# Altium schematic symbol library Wally_BMS.SchLib: 22 symbols
Pins are listed as number, name and electrical type; pins without a type are passive.

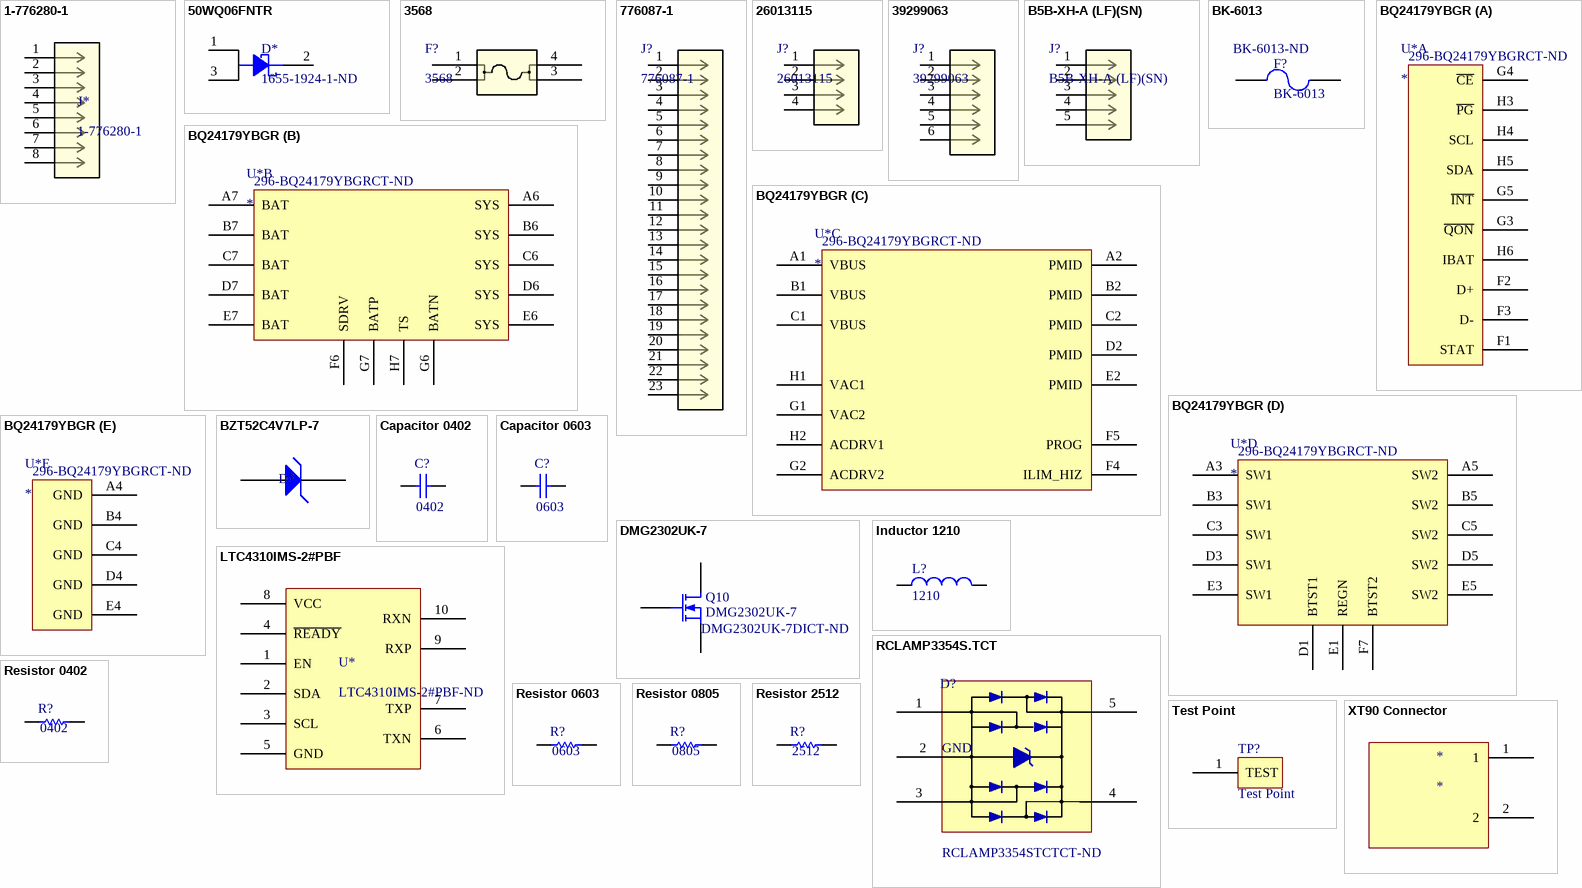
[diagram p0: symbols 1-776280-1 to XT90 Connector]

## 1-776280-1
designator J*
Mfr_Name: TE Connectivity; Manufacturer_Part_Number: 1-776280-1
footprint CONN8_776280_TEC
pins: 1, 2, 3, 4, 5, 6, 7, 8

## 50WQ06FNTR
designator D*, comment 1655-1924-1-ND
SCHOTTKY RECTIFIER 60V D-PAK
footprint 50WQ06FNTR (Footprint not found)
pins: 1 ANODE, 2 CATHODE, 3 ANODE

## 3568
designator F?
No Description Available; Mfr_Name: Keystone Electronics; Type: DEV; Copyright: Copyright (C) 2022 Ultra Librarian. All rights reserved.; Manufacturer_Part_Number: 3568; Digi-Key_Part_Number_1: 1528-2397-ND; Digi-Key_Part_Number_2: 36-3568-ND; RefDes: RefDes
footprint 3568_KEY
pins: 1, 2, 3, 4

## 776087-1
designator J?
No Description Available; Mfr_Name: TE Connectivity; Type: DEV; Copyright: Copyright (C) 2021 Ultra Librarian. All rights reserved.; Manufacturer_Part_Number: 776087-1; Digi-Key_Part_Number_1: A107007-ND; RefDes: RefDes
footprint CONN23_776087_TEC
pins: 1, 2, 3, 4, 5, 6, 7, 8, 9, 10, 11, 12, 13, 14, 15, 16, 17, 18, 19, 20, 21, 22, 23

## 26013115
designator J?
No Description Available; Mfr_Name: Molex Connector Corporation; Copyright: Copyright (C) 2021 Ultra Librarian. All rights reserved.; Manufacturer_Part_Number: 26013115; RefDes: RefDes; Type: DEV
footprint CON_26013115
pins: 1, 2, 3, 4

## 39299063
designator J?
No Description Available; Mfr_Name: Molex Connector Corporation; Copyright: Copyright (C) 2021 Ultra Librarian. All rights reserved.; Manufacturer_Part_Number: 39299063; RefDes: RefDes; Type: DEV
footprint CON_39299063
pins: 1, 2, 3, 4, 5, 6

## B5B-XH-A (LF)(SN)
designator J?
No Description Available; Mfr_Name: JST; Copyright: Copyright (C) 2021 Ultra Librarian. All rights reserved.; Manufacturer_Part_Number: B5B-XH-A (LF)(SN); RefDes: RefDes; Type: DEV
footprint CONN_B5B-XH-A (LF)(SN)_JST
pins: 1, 2, 3, 4, 5

## BK-6013
designator F?  Supplier Part Number 1: BK-6013-ND
FUSE HOLDER BLADE PCB; Supplier 1: Digi-Key
footprint BK-6013 (FUSE HOLDER BLADE PCB)
pins: 1, 2, 3, 4

## BQ24179YBGR
designator U*  Supplier Part Number 1: 296-BQ24179YBGRCT-ND
INTEGRATED, NVDC, 5-A 1-CELL TO; Manufacturer: Texas Instruments; Manufacturer Part Number: BQ24179YBGR; Supplier 1: Digi-Key; RoHS: Yes; Stock 1: 2424; Pricing 1: 1=6.36000, 10=5.74300, 25=5.47600, 100=4.75470, 250=4.54104, 500=4.41000 (USD)
footprint BGA_79YBGR_TEX
part A pins: F1 STAT, F2 D+, F3 D-, G3 ~{QON}, G4 ~{CE}, G5 ~{INT}, H3 ~{PG}, H4 SCL, H5 SDA, H6 IBAT
part B pins: A6 SYS, A7 BAT, B6 SYS, B7 BAT, C6 SYS, C7 BAT, D6 SYS, D7 BAT, E6 SYS, E7 BAT, F6 SDRV, G6 BATN, G7 BATP, H7 TS
part C pins: A1 VBUS, A2 PMID, B1 VBUS, B2 PMID, C1 VBUS, C2 PMID, D2 PMID, E2 PMID, F4 ILIM_HIZ, F5 PROG, G1 VAC2, G2 ACDRV2, H1 VAC1, H2 ACDRV1
part D pins: A3 SW1, A5 SW2, B3 SW1, B5 SW2, C3 SW1, C5 SW2, D1 BTST1, D3 SW1, D5 SW2, E1 REGN, E3 SW1, E5 SW2, F7 BTST2
part E pins: A4 GND, B4 GND, C4 GND, D4 GND, E4 GND

## BZT52C4V7LP-7
designator D?
DIODE ZENER 4.7V 250MW 2DFN
footprint bzt52c4v7lp-7 (DIODE ZENER 4.7V 250MW 2DFN)
pins: 1 K, 2 A

## Capacitor 0402
designator C?  Package / Case: 0402
footprint C0402 (Chip Capacitor, 2-Leads, Body 1.00x0.50mm, IPC Medium Density)
pins: 1, 2

## Capacitor 0603
designator C?  Package / Case: 0603
footprint C0603 (Chip Capacitor, 2-Leads, Body 1.60x0.80mm, IPC Medium Density)
pins: 1, 2

## DMG2302UK-7
designator Q10  Supplier Part Number 1: DMG2302UK-7DICT-ND
MOSFET N-CH 20V 2.8A SOT23; Manufacturer: Nexperia USA; Manufacturer Part Number: 2N7002P,215; PackageReference: SOT23; PackageDescription: SOT-23; 3 Leads; Body 3.1 x 2.5 mm, inc. leads (LxW max), Alternate Lead Configuration; Supplier 1: Digi-Key; Stock 1: 1001498; Pricing 1: 1 = 0.200000, 10 = 0.179000, 100 = 0.117300, 500 = 0.057360, 1000 = 0.039110 (USD); RoHS: No; ComponentLink1URL: https://assets.nexperia.com/documents/data-sheet/2N7002P.pdf?src-supplier=Digi-Key; ComponentLink1Description: https://assets.nexperia.com/documents/data-sheet/2N7002P.pdf?src-supplier=Digi-Key
footprint *SOT23
pins: 1 G, 2 S, 3 D

## Inductor 1210
designator L?  Package / Case: 1210  (hidden comment: *)
footprint ind1210
pins: 1, 2

## LTC4310IMS-2#PBF
designator U*, comment LTC4310IMS-2#PBF-ND
DIGITAL ISOLATOR 2CH I2C 10MSOP
footprint MSOP-10_MS_LIT
pins: 1 EN, 2 SDA, 3 SCL, 4 ~{READY}, 5 GND, 6 TXN, 7 TXP, 8 VCC, 9 RXP, 10 RXN

## RCLAMP3354S.TCT
designator D?  Supplier Part Number 1: RCLAMP3354STCTCT-ND  (hidden comment: RCLAMP3354S.TCT)
TVS DIODE 3.3VWM 16VC; Supplier 1: Digi-Key
footprint SOT95P280X145-5N (SOT23, 5-Leads, Body 2.95x2.80mm, Pitch 0.95mm, IPC Medium Density)
pins: 1, 2 GND (power), 3, 4, 5

## Resistor 0402
designator R?  Package / Case: 0402
footprint RES0402
pins: 1, 2

## Resistor 0603
designator R?  Package / Case: 0603
footprint RES0603
pins: 1, 2

## Resistor 0805
designator R?  Package / Case: 0805
footprint RES0805 (Resistor with 0805 Footprint)
pins: 1, 2

## Resistor 2512
designator R?  Package / Case: 2512
footprint RES2512
pins: 1, 2

## Test Point
designator TP?
footprint TEST POINT
pins: 1 TEST

## XT90 Connector
designator *
pins: 1, 2